# Altium footprint library Solder Jumper - 3 Pin NO.PcbLib: 1 footprints
Each footprint in its own frame and in the unit in brackets; x right, y up, seen from the top. Pads: shape width x height; smd on the part's side, far side on the other; paste and mask are expansions set on the pad; w line width, h text height; cw(c..) or ccw(c..) is an arc to the next point about the centre after c.
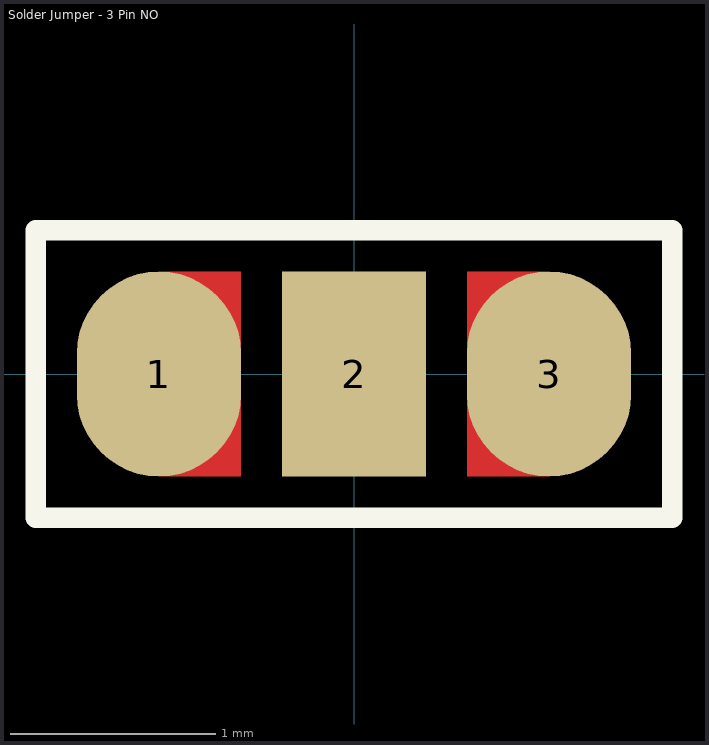
[diagram p0: the footprint, top view; thin cyan lines are the x and y axes]

## Solder Jumper - 3 Pin NO [mm] "Solder jumper, Normally Open"
pads (3):
  oval 0.8x1 smd: 1(-0.95,0) 3(0.95,0)
  rect 0.7x1 smd: 2(0,0)
Top Layer:
  region: 0.95,0.5 0.55,0.5 0.55,-0.5 0.95,-0.5
  rectangle: -0.95,-0.5 -0.55,0.5
Top Overlay:
  lines w0.1: -1.55,-0.7 -1.55,0.7 1.55,0.7 1.55,-0.7 -1.55,-0.7
Mechanical 15:
  lines w0.05: -0.25,0 0,0 ; 0,-0.25 0,0 ; 0,0.25 0,0 ; 0.25,0 0,0 ; -1.55,-0.7 -1.55,0.7 1.55,0.7 1.55,-0.7 -1.55,-0.7